# EAGLE library part LPC4313JET100 (library nxp_60_1_1)
32-bit ARM Cortex-M4/M0 MCU; up to 1 MB flash and 136 kB SRAM; Ethernet, two High-speed USB, LCD, EMC The LPC435x/3x/2x/1x are ARM Cortex-M4 based microcontrollers for embedded applications which include an ARM Cortex-M0 coprocessor, up to 1 MB of flash and 136 kB of on-chip SRAM, 16 kB of EEPROM memory, a quad SPI Flash Interface (SPIFI), advanced configurable peripherals such as the State Configurable Timer (SCT) and the Serial General Purpose I/O (SGPIO) interface, two High-speed USB controllers, Ethernet, LCD, an external memory controller, and multiple digital and analog peripherals. The LPC435x/3x/2x/1x operate at CPU frequencies of up to 204 MHz. The ARM Cortex-M4 is a next generation 32-bit core that offers system enhancements such as low power consumption, enhanced debug features, and a high level of support block integration. The ARM Cortex-M4 CPU incorporates a 3-stage pipeline, uses a Harvard architecture with separate local instruction and data buses as well as a third bus for peripherals, and includes an internal prefetch unit that supports speculative branching. The ARM Cortex-M4 supports single-cycle digital signal processing and SIMD instructions. A hardware floating-point unit is integrated in the core. The ARM Cortex-M0 coprocessor is an energy-efficient and easy-to-use 32-bit core which is upward code- and tool-compatible with the Cortex-M4 core. The Cortex-M0 coprocessor, designed as a replacement for existing 8/16-bit microcontrollers, offers up to 204 MHz performance with a simple instruction set and reduced code size. AAL Eindhoven MK
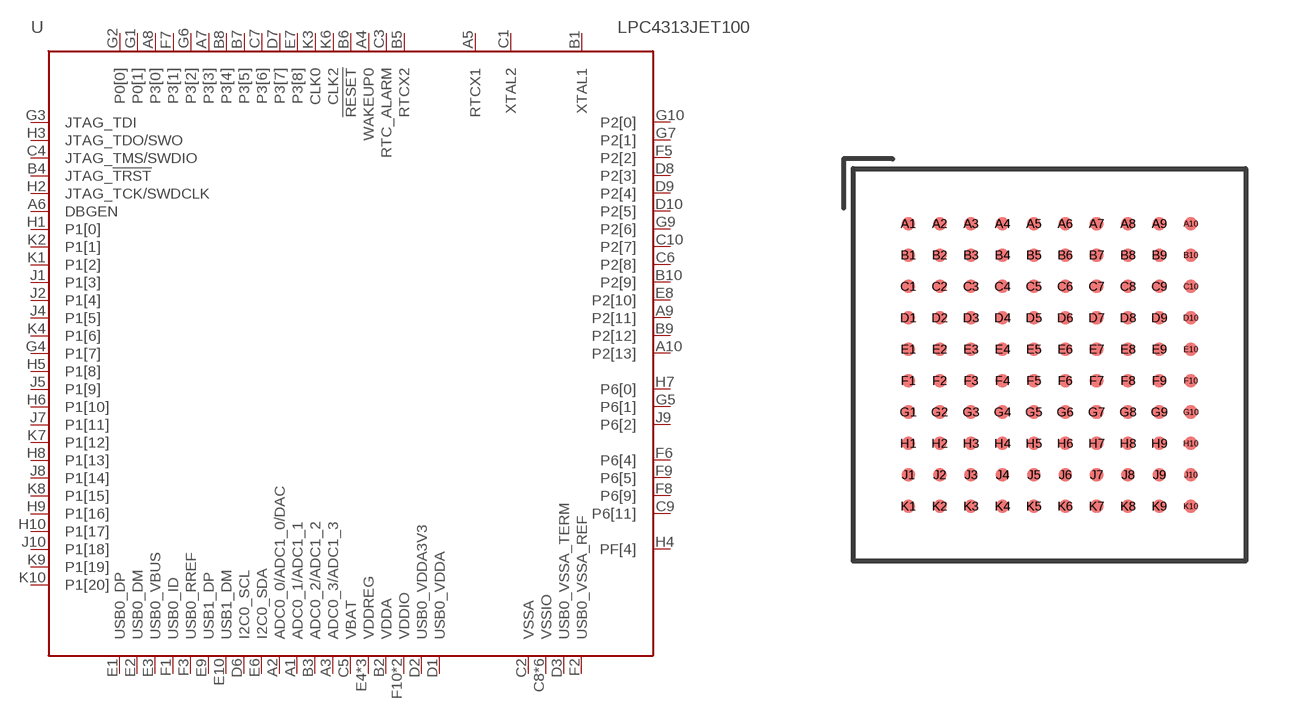
[diagram p175: symbol with the pads of SOT926-1; footprint SOT926-1]

Designator prefix U

## LPC4313JET100  [SOT926-1]
A1  ADC0_1/ADC1_1  in
A2  ADC0_0/ADC1_0/DAC  in
A3  ADC0_3/ADC1_3  in
A4  WAKEUP0  in
A5  RTCX1  in
A6  DBGEN  in
A7  P3[3]
A8  P3[0]
A9  P2[11]
A10  P2[13]
B1  XTAL1  in
B2  VDDA  pwr
B3  ADC0_2/ADC1_2  in
B4  JTAG_!TRST  in
B5  RTCX2  out
B6  !RESET!  in
B7  P3[5]
B8  P3[4]
B9  P2[12]
B10  P2[9]
C1  XTAL2  out
C2  VSSA  pwr
C3  RTC_ALARM  out
C4  JTAG_TMS/SWDIO  in
C5  VBAT  pwr
C6  P2[8]
C7  P3[6]
C8  VSSIO  pwr
C9  P6[11]
C10  P2[7]
D1  USB0_VDDA  pwr
D2  USB0_VDDA3V3  pwr
D3  USB0_VSSA_TERM  pwr
D4  VSSIO  pwr
D5  VSSIO  pwr
D6  I2C0_SCL
D7  P3[7]
D8  P2[3]
D9  P2[4]
D10  P2[5]
E1  USB0_DP
E2  USB0_DM
E3  USB0_VBUS
E4  VDDREG  pwr
E5  VDDREG  pwr
E6  I2C0_SDA
E7  P3[8]
E8  P2[10]
E9  USB1_DP
E10  USB1_DM
F1  USB0_ID  in
F2  USB0_VSSA_REF  pwr
F3  USB0_RREF  pas
F4  VDDREG  pwr
F5  P2[2]
F6  P6[4]
F7  P3[1]
F8  P6[9]
F9  P6[5]
F10  VDDIO  pwr
G1  P0[1]
G2  P0[0]
G3  JTAG_TDI  in
G4  P1[7]
G5  P6[1]
G6  P3[2]
G7  P2[1]
G8  VSSIO  pwr
G9  P2[6]
G10  P2[0]
H1  P1[0]
H2  JTAG_TCK/SWDCLK  in
H3  JTAG_TDO/SWO  out
H4  PF[4]
H5  P1[8]
H6  P1[10]
H7  P6[0]
H8  P1[13]
H9  P1[16]
H10  P1[17]
J1  P1[3]
J2  P1[4]
J3  VSSIO  pwr
J4  P1[5]
J5  P1[9]
J6  VSSIO  pwr
J7  P1[11]
J8  P1[14]
J9  P6[2]
J10  P1[18]
K1  P1[2]
K2  P1[1]
K3  CLK0
K4  P1[6]
K5  VDDIO  pwr
K6  CLK2
K7  P1[12]
K8  P1[15]
K9  P1[19]
K10  P1[20]

## Footprint SOT926-1 (pad centres in mm)
SOT926-1 TFBGA100: plastic thin fine-pitch ball grid array package; 100 balls; body 9 x 9 x 0.7 mm JEDEC: -- IEC: --
smd 0.35 x 0.35: A1 -3.6,3.6; A2 -2.8,3.6; A3 -2,3.6; A4 -1.2,3.6; A5 -0.4,3.6; A6 0.4,3.6; A7 1.2,3.6; A8 2,3.6; A9 2.8,3.6; A10 3.6,3.6; B1 -3.6,2.8; B2 -2.8,2.8; B3 -2,2.8; B4 -1.2,2.8; B5 -0.4,2.8; B6 0.4,2.8; B7 1.2,2.8; B8 2,2.8; B9 2.8,2.8; B10 3.6,2.8; C1 -3.6,2; C2 -2.8,2; C3 -2,2; C4 -1.2,2; C5 -0.4,2; C6 0.4,2; C7 1.2,2; C8 2,2; C9 2.8,2; C10 3.6,2; D1 -3.6,1.2; D2 -2.8,1.2; D3 -2,1.2; D4 -1.2,1.2; D5 -0.4,1.2; D6 0.4,1.2; D7 1.2,1.2; D8 2,1.2; D9 2.8,1.2; D10 3.6,1.2; E1 -3.6,0.4; E2 -2.8,0.4; E3 -2,0.4; E4 -1.2,0.4; E5 -0.4,0.4; E6 0.4,0.4; E7 1.2,0.4; E8 2,0.4; E9 2.8,0.4; E10 3.6,0.4; F1 -3.6,-0.4; F2 -2.8,-0.4; F3 -2,-0.4; F4 -1.2,-0.4; F5 -0.4,-0.4; F6 0.4,-0.4; F7 1.2,-0.4; F8 2,-0.4; F9 2.8,-0.4; F10 3.6,-0.4; G1 -3.6,-1.2; G2 -2.8,-1.2; G3 -2,-1.2; G4 -1.2,-1.2; G5 -0.4,-1.2; G6 0.4,-1.2; G7 1.2,-1.2; G8 2,-1.2; G9 2.8,-1.2; G10 3.6,-1.2; H1 -3.6,-2; H2 -2.8,-2; H3 -2,-2; H4 -1.2,-2; H5 -0.4,-2; H6 0.4,-2; H7 1.2,-2; H8 2,-2; H9 2.8,-2; H10 3.6,-2; J1 -3.6,-2.8; J2 -2.8,-2.8; J3 -2,-2.8; J4 -1.2,-2.8; J5 -0.4,-2.8; J6 0.4,-2.8; J7 1.2,-2.8; J8 2,-2.8; J9 2.8,-2.8; J10 3.6,-2.8; K1 -3.6,-3.6; K2 -2.8,-3.6; K3 -2,-3.6; K4 -1.2,-3.6; K5 -0.4,-3.6; K6 0.4,-3.6; K7 1.2,-3.6; K8 2,-3.6; K9 2.8,-3.6; K10 3.6,-3.6